# Altium footprint library Connector_Phoenix_MC_HighVoltage.PcbLib: 66 footprints (part 5 of 5)
Each footprint in its own frame and in the unit in brackets; x right, y up, seen from the top. Pads: shape width x height; smd on the part's side, far side on the other; paste and mask are expansions set on the pad; w line width, h text height; cw(c..) or ccw(c..) is an arc to the next point about the centre after c.
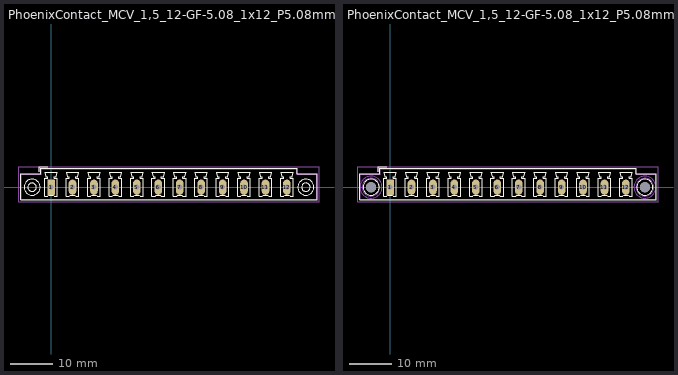
[diagram p4: the footprints below, top view; thin cyan lines are the x and y axes]

## PhoenixContact_MCV_1,5_12-GF-5.08_1x12_P5.08mm_Vertical_ThreadedFlange [mm]
pads (12):
  rrect14% 1.8x3.6 hole 1.2: 1(0,0)
  rrect100% 1.8x3.6 hole 1.2: 2(5.08,0) 3(10.16,0) 4(15.24,0) 5(20.32,0) 6(25.4,0) 7(30.48,0) 8(35.56,0) 9(40.64,0) 10(45.72,0) 11(50.8,0) 12(55.88,0)
F.SilkS:
  drawing of 182 lines, arcs and shapes, not listed
Top Assembly:
  lines w0.254: -2.8,3.6 -2.8,4.85 -0.8,4.85 ; -7.1,-2.9 62.98,-2.9 62.98,3.1 58.18,3.1 58.18,4.35 -2.3,4.35 -2.3,3.1 -7.1,3.1 -7.1,-2.9
  text "'.Designator'" at 23.893,2.81 h1
Top Courtyard:
  lines w0.254: -7.6,-3.41 63.48,-3.41 63.48,4.85 -7.6,4.85 -7.6,-3.41
Top Designator:
  text ".Designator" at 20.322,0.212 h1.52

## PhoenixContact_MCV_1,5_12-GF-5.08_1x12_P5.08mm_Vertical_ThreadedFlange_MountHole [mm]
pads (14):
  rrect14% 1.8x3.6 hole 1.2: 1(0,0)
  rrect100% 1.8x3.6 hole 1.2: 2(5.08,0) 3(10.16,0) 4(15.24,0) 5(20.32,0) 6(25.4,0) 7(30.48,0) 8(35.56,0) 9(40.64,0) 10(45.72,0) 11(50.8,0) 12(55.88,0)
  round 2.4 hole 2.4: Un1(-4.5,0) Un2(60.38,0)
F.SilkS:
  drawing of 180 lines, arcs and shapes, not listed
B.SilkS:
  circle w0.254: c60.38,0 r2.21
  circle w0.254: c-4.5,0 r2.21
Top Assembly:
  lines w0.254: -2.8,3.6 -2.8,4.85 -0.8,4.85 ; -7.1,-2.9 62.98,-2.9 62.98,3.1 58.18,3.1 58.18,4.35 -2.3,4.35 -2.3,3.1 -7.1,3.1 -7.1,-2.9
  text "'.Designator'" at 23.893,2.81 h1
Bottom Assembly:
  circle w0.254: c60.38,0 r2.1
  circle w0.254: c-4.5,0 r2.1
Top Courtyard:
  lines w0.254: -7.6,-3.41 63.48,-3.41 63.48,4.85 -7.6,4.85 -7.6,-3.41
Bottom Courtyard:
  circle w0.254: c60.38,0 r2.6
  circle w0.254: c-4.5,0 r2.6
Top Designator:
  text ".Designator" at 20.322,0.212 h1.52